# Altium schematic symbol library MCP1754ST-3302E_DB.SchLib: 1 symbol
Pins are listed as number, name and electrical type; pins without a type are passive.

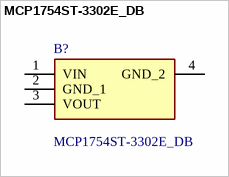
[diagram p0: symbol MCP1754ST-3302E_DB]

## MCP1754ST-3302E_DB
designator B?
LDO Voltage Regulators LDO; Manufacturer_Name: Microchip; Manufacturer_Part_Number: MCP1754ST-3302E/DB; Geometry.Height: 1.8mm; Mouser Part Number: 579-MCP1754T-3302EDB; Mouser Price/Stock: https://www.mouser.co.uk/ProductDetail/Microchip-Technology/MCP1754ST-3302E-DB?qs=geWWqIMx8Ypn%2FSBmGzIfBw%3D%3D; Datasheet Link: http://www.microchip.com/mymicrochip/filehandler.aspx?ddocname=en555395
footprint SOT230P700X180-4N
pins: 1 VIN, 2 GND_1, 3 VOUT, 4 GND_2